# EAGLE library part 2X4-0.01"(2.54MM)-JUMPERS (library 32bits)
Variant Manufacturer part no. HEADERS Amphenol FCI 95278-101A10LF SOCKET Sullins NPxCxx2KFMx-RC
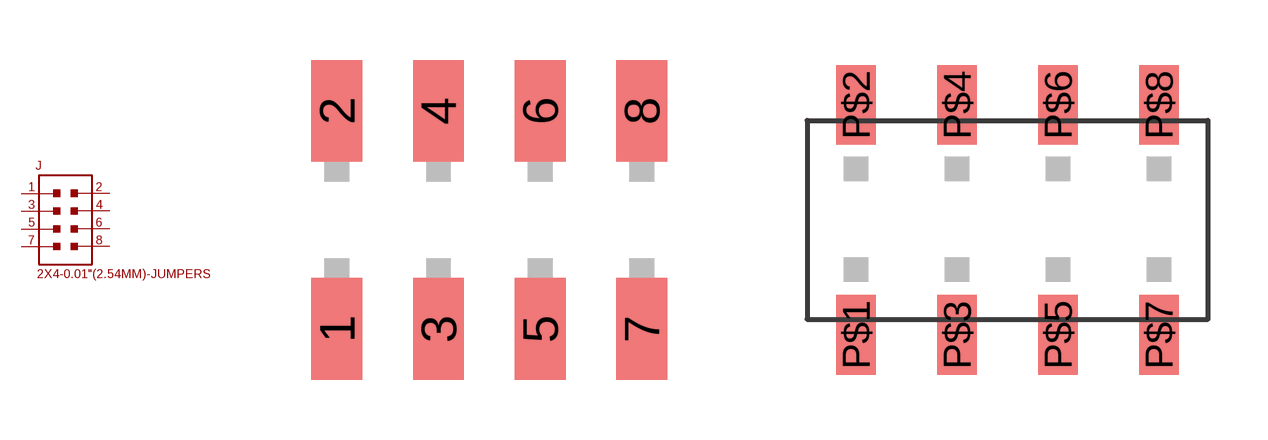
[diagram p9: symbol with the pads of 2X4-0.01"(2.54MM)-HEADERS; footprints 2X4-0.01"(2.54MM)-HEADERS, 2X4-0.01"(2.54MM)-SOCKET]

Designator prefix J

## 2X4-0.01"(2.54MM)-JUMPERSHEADERS  [2X4-0.01"(2.54MM)-HEADERS]
1  1
2  2
3  3
4  4
5  5
6  6
7  7
8  8

## 2X4-0.01"(2.54MM)-JUMPERSSOCKET  [2X4-0.01"(2.54MM)-SOCKET]
P$1  1
P$2  2
P$3  3
P$4  4
P$5  5
P$6  6
P$7  7
P$8  8

## Footprint 2X4-0.01"(2.54MM)-HEADERS (pad centres in mm)
smd 1.27 x 2.54: 1 0,-1.46; 2 0,4; 3 2.54,-1.46; 4 2.54,4; 5 5.08,-1.46; 6 5.08,4; 7 7.62,-1.46; 8 7.62,4

## Footprint 2X4-0.01"(2.54MM)-SOCKET (pad centres in mm)
smd 0.991 x 2.007: P$1 0,-1.651; P$2 0,4.14; P$3 2.54,-1.651; P$4 2.54,4.14; P$5 5.08,-1.651; P$6 5.08,4.14; P$7 7.62,-1.651; P$8 7.62,4.14